# Altium footprint library USB接口.PcbLib: 3 footprints
Each footprint in its own frame and in the unit in brackets; x right, y up, seen from the top. Pads: shape width x height; smd on the part's side, far side on the other; paste and mask are expansions set on the pad; w line width, h text height; cw(c..) or ccw(c..) is an arc to the next point about the centre after c.
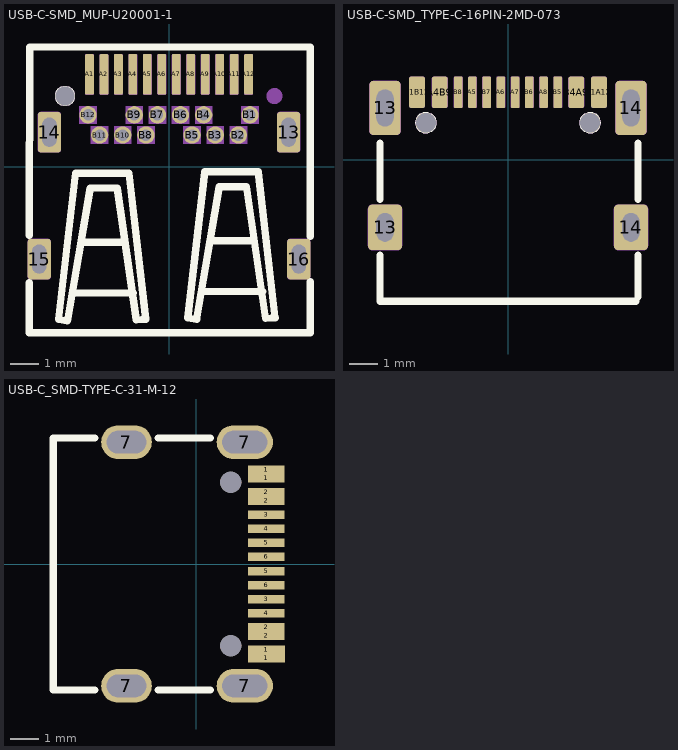
[diagram p0: the footprints below, top view; thin cyan lines are the x and y axes]

## USB-C-SMD_MUP-U20001-1 [mm] "USBtypeCU20001; SMD"
height -909.212
pads (29):
  rrect25% 0.8x1.4 hole 0.5 slot 1 at 90 deg mask+0.05: 13(4.14,1.195) 14(-4.14,1.195) 15(-4.49,-3.195) 16(4.49,-3.195)
  rrect25% 0.3x1.4 smd mask+0.05: A1(-2.75,3.195) A2(-2.25,3.195) A3(-1.75,3.195) A4(-1.25,3.195) A5(-0.749,3.195) A6(-0.249,3.195) A7(0.251,3.195) A8(0.752,3.195) A9(1.252,3.195) A10(1.752,3.195) A11(2.252,3.195) A12(2.753,3.195)
  round 0.6 hole 0.4 mask+0.05: B1(2.8,1.795) B2(2.4,1.094) B3(1.6,1.094) B4(1.2,1.795) B5(0.8,1.094) B6(0.4,1.795) B7(-0.4,1.795) B8(-0.8,1.094) B9(-1.2,1.795) B10(-1.6,1.094) B11(-2.4,1.094) B12(-2.8,1.795)
  round 0.65 hole 0.65 unplated: ""(-3.6,2.444)
Top Overlay:
  region: -4.76,4.148 -4.761,4.159 -4.765,4.171 -4.77,4.181 -4.778,4.19 -4.787,4.197 -4.797,4.203 -4.808,4.206 -4.82,4.208 -4.832,4.206 -4.843,4.203 -4.853,4.197 -4.862,4.19 -4.87,4.181 -4.875,4.171 -4.879,4.159 -4.88,4.148 -4.879,4.136 -4.875,4.125 -4.87,4.114 -4.862,4.105 -4.853,4.098 -4.843,4.092 -4.832,4.089 -4.82,4.088 -4.808,4.089 -4.797,4.092 -4.787,4.098 -4.778,4.105 -4.77,4.114 -4.765,4.125 -4.761,4.136
  lines w0.05: -3.925,2.444 -3.919,2.381 -3.9,2.32 -3.87,2.263 -3.83,2.214 -3.78,2.174 -3.724,2.144 -3.663,2.125 -3.6,2.119 -3.537,2.125 -3.476,2.144 -3.419,2.174 -3.37,2.214 -3.33,2.263 -3.3,2.32 -3.281,2.381 -3.275,2.444 -3.281,2.507 -3.3,2.568 -3.33,2.625 -3.37,2.674 -3.419,2.714 -3.476,2.744 -3.537,2.763 -3.6,2.769 -3.663,2.763 -3.724,2.744 -3.78,2.714 -3.83,2.674 -3.87,2.625 -3.9,2.568 -3.919,2.507 -3.925,2.444
  lines w0.254: -4.84,-4.02 -4.84,-5.75 4.89,-5.75 4.89,-3.983 ; -4.84,-2.371 -4.82,4.14 4.89,4.14 4.89,-2.408 ; -3.312,-4.371 -1.229,-4.371 ; -3.007,-2.618 -1.56,-2.618 ; 1.158,-4.32 3.241,-4.32 ; 1.463,-2.567 2.911,-2.567 ; -3.82,-5.285 -3.515,-5.336 -2.728,-0.738 -1.788,-0.738 -1.133,-5.303 -0.8,-5.277 -1.382,-0.23 -3.236,-0.23 -3.82,-5.285 ; 0.65,-5.234 1.234,-0.18 3.089,-0.18 3.67,-5.227 3.338,-5.252 2.682,-0.688 1.742,-0.688 0.955,-5.285 0.65,-5.234
Mechanical 1:
  lines w0.05: -3.925,2.444 -3.919,2.381 -3.9,2.32 -3.87,2.263 -3.83,2.214 -3.78,2.174 -3.724,2.144 -3.663,2.125 -3.6,2.119 -3.537,2.125 -3.476,2.144 -3.419,2.174 -3.37,2.214 -3.33,2.263 -3.3,2.32 -3.281,2.381 -3.275,2.444 -3.281,2.507 -3.3,2.568 -3.33,2.625 -3.37,2.674 -3.419,2.714 -3.476,2.744 -3.537,2.763 -3.6,2.769 -3.663,2.763 -3.724,2.744 -3.78,2.714 -3.83,2.674 -3.87,2.625 -3.9,2.568 -3.919,2.507 -3.925,2.444
Mechanical 2:
  circle w0.275: c3.65,2.444 r0.138
  circle w0.275: c-3.6,2.444 r0.138
Mechanical 9:
  drawing of 28 lines, arcs and shapes, not listed
Multi-Layer:
  region: 4.125,2.444 4.116,2.537 4.089,2.626 4.045,2.708 3.986,2.78 3.914,2.839 3.832,2.883 3.743,2.91 3.65,2.92 3.557,2.91 3.468,2.883 3.386,2.839 3.314,2.78 3.255,2.708 3.211,2.626 3.184,2.537 3.175,2.444 3.184,2.352 3.211,2.263 3.255,2.181 3.314,2.109 3.386,2.05 3.468,2.006 3.557,1.979 3.65,1.969 3.743,1.979 3.832,2.006 3.914,2.05 3.986,2.109 4.045,2.181 4.089,2.263 4.116,2.352
3D body "USB-C-SMD_MUP-U20001-1.step": height 1, standoff 0, extent -4.82,-5.722 4.82,4.148

## USB-C-SMD_TYPE-C-16PIN-2MD-073 [mm] "USB-C-SMD_TYPE-C-16PIN-2MD-073"
height -909.212
pads (18):
  rrect25% 1.2x1.6 hole 0.6 slot 1 at 90 deg mask+0.05: 13(-4.325,-2.375) 14(4.325,-2.375)
  rrect25% 1.1x1.9 hole 0.6 slot 1.3 at 90 deg mask+0.05: 13(-4.325,1.825) 14(4.325,1.825)
  rrect25% 0.55x1.1 smd mask+0.05: A1B12(-3.2,2.375) A4B9(-2.4,2.375) B1A12(3.2,2.375) B4A9(2.4,2.375)
  rrect25% 0.3x1.1 smd mask+0.05: A5(-1.25,2.375) A6(-0.25,2.375) A7(0.25,2.375) A8(1.25,2.375) B5(1.75,2.375) B6(0.75,2.375) B7(-0.75,2.375) B8(-1.75,2.375)
  round 0.7 hole 0.7 unplated: ""(-2.89,1.305) ""(2.89,1.305)
Top Overlay:
  region: -4.42,2.649 -4.421,2.655 -4.422,2.661 -4.425,2.666 -4.429,2.67 -4.433,2.674 -4.438,2.677 -4.444,2.678 -4.45,2.679 -4.456,2.678 -4.461,2.677 -4.467,2.674 -4.471,2.67 -4.475,2.666 -4.478,2.661 -4.479,2.655 -4.48,2.649 -4.479,2.643 -4.478,2.638 -4.475,2.632 -4.471,2.628 -4.467,2.624 -4.461,2.621 -4.456,2.62 -4.45,2.619 -4.444,2.62 -4.438,2.621 -4.433,2.624 -4.429,2.628 -4.425,2.632 -4.422,2.638 -4.421,2.643
  lines w0.05: -3.24,1.305 -3.233,1.373 -3.213,1.439 -3.181,1.499 -3.137,1.552 -3.084,1.596 -3.024,1.628 -2.958,1.648 -2.89,1.655 -2.822,1.648 -2.756,1.628 -2.695,1.596 -2.642,1.552 -2.599,1.499 -2.567,1.439 -2.547,1.373 -2.54,1.305 -2.547,1.237 -2.567,1.171 -2.599,1.11 -2.642,1.057 -2.695,1.014 -2.756,0.982 -2.822,0.962 -2.89,0.955 -2.958,0.962 -3.024,0.982 -3.084,1.014 -3.137,1.057 -3.181,1.11 -3.213,1.171 -3.233,1.237 -3.24,1.305 ; 2.54,1.305 2.547,1.373 2.567,1.439 2.599,1.499 2.643,1.552 2.696,1.596 2.756,1.628 2.822,1.648 2.89,1.655 2.958,1.648 3.024,1.628 3.085,1.596 3.138,1.552 3.181,1.499 3.214,1.439 3.233,1.373 3.24,1.305 3.233,1.237 3.214,1.171 3.181,1.11 3.138,1.057 3.085,1.014 3.024,0.982 2.958,0.962 2.89,0.955 2.822,0.962 2.756,0.982 2.696,1.014 2.643,1.057 2.599,1.11 2.567,1.171 2.547,1.237 2.54,1.305
  lines w0.254: -4.5,-3.356 -4.5,-4.975 4.5,-4.975 ; -4.5,-1.394 -4.5,0.594 ; 4.572,-4.826 4.572,-3.353 ; 4.572,-1.397 4.572,0.597
Mechanical 1:
  lines w0.05: -3.24,1.305 -3.233,1.373 -3.213,1.439 -3.181,1.499 -3.137,1.552 -3.084,1.596 -3.024,1.628 -2.958,1.648 -2.89,1.655 -2.822,1.648 -2.756,1.628 -2.695,1.596 -2.642,1.552 -2.599,1.499 -2.567,1.439 -2.547,1.373 -2.54,1.305 -2.547,1.237 -2.567,1.171 -2.599,1.11 -2.642,1.057 -2.695,1.014 -2.756,0.982 -2.822,0.962 -2.89,0.955 -2.958,0.962 -3.024,0.982 -3.084,1.014 -3.137,1.057 -3.181,1.11 -3.213,1.171 -3.233,1.237 -3.24,1.305 ; 2.54,1.305 2.547,1.373 2.567,1.439 2.599,1.499 2.643,1.552 2.696,1.596 2.756,1.628 2.822,1.648 2.89,1.655 2.958,1.648 3.024,1.628 3.085,1.596 3.138,1.552 3.181,1.499 3.214,1.439 3.233,1.373 3.24,1.305 3.233,1.237 3.214,1.171 3.181,1.11 3.138,1.057 3.085,1.014 3.024,0.982 2.958,0.962 2.89,0.955 2.822,0.962 2.756,0.982 2.696,1.014 2.643,1.057 2.599,1.11 2.567,1.171 2.547,1.237 2.54,1.305
Mechanical 2:
  circle w0.25: c-2.89,1.305 r0.125
  circle w0.25: c2.89,1.305 r0.125
Mechanical 9:
  drawing of 16 lines, arcs and shapes, not listed
3D body "USB-C-SMD_TYPE-C-6PIN-2MD-073.step": height 1, standoff 0, extent -4.45,-5.001 4.45,2.349

## USB-C_SMD-TYPE-C-31-M-12 [mm]
pads (22):
  rect 1.3x0.3 smd: 1(2.484,3.35) 1(2.484,3.05) 1(2.484,-3.05) 1(2.484,-3.35) 2(2.484,2.55) 2(2.484,-2.25) 2(2.484,-2.55) 2(2.484,2.25) 3(2.484,-1.25) 3(2.484,1.75) 4(2.484,-1.75) 4(2.484,1.25) 5(2.484,-0.25) 5(2.484,0.75) 6(2.484,-0.75) 6(2.484,0.25)
  oval 1.8x1.2 hole 0.8 slot 1.4 at 0 deg: 7(-2.484,-4.325) 7(-2.484,4.325)
  oval 2x1.2 hole 0.8 slot 1.6 at 0 deg: 7(1.716,-4.325) 7(1.716,4.325)
  round 0.75 hole 0.75 unplated: ""(1.216,-2.9) ""(1.216,2.9)
Top Overlay:
  lines w0.254: -3.602,-4.471 -5.084,-4.471 -5.084,4.469 -3.603,4.469 ; -1.366,-4.471 0.498,-4.471 ; -1.366,4.469 0.497,4.469
Top Paste:
  drawing of 16 lines, arcs and shapes, not listed
Mechanical 15:
  circle w0.25: c1.216,-2.9 r0.125
  circle w0.25: c1.216,2.9 r0.125